# EAGLE library part RS232C (library FaBo-PIN)
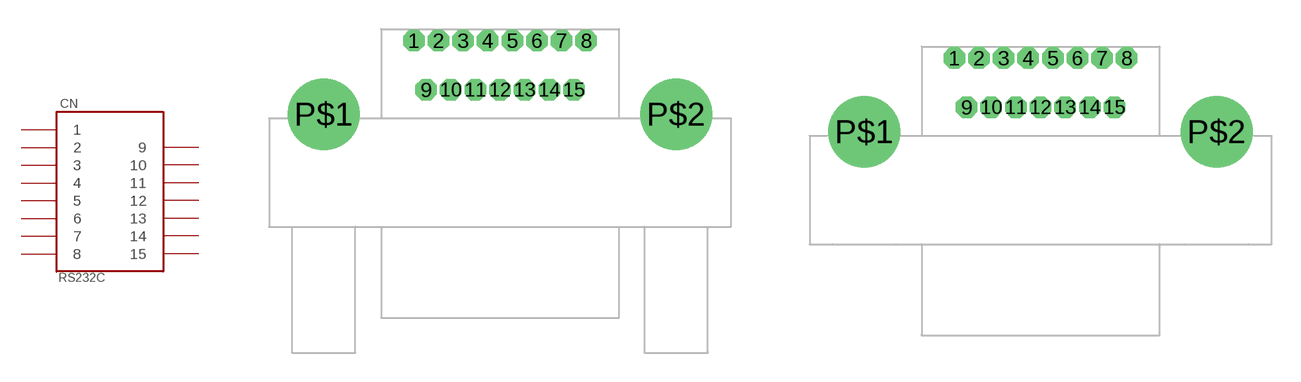
[diagram p10: symbol with the pads of 381-015-112L565; footprints 381-015-112L565, 381-015-112L565_NS]

Designator prefix CN

## RS232C-15P  [381-015-112L565]
1  1
2  2
3  3
4  4
5  5
6  6
7  7
8  8
9  9
10  10
11  11
12  12
13  13
14  14
15  15

## RS232C-NS  [381-015-112L565_NS]
Pads as for 381-015-112L565

## Footprint 381-015-112L565 (pad centres in mm)
drill 0.6 pad 0.95 octagon: 1 -4.445,9.51; 2 -3.175,9.51; 3 -1.905,9.51; 4 -0.635,9.51; 5 0.635,9.51; 6 1.905,9.51; 7 3.175,9.51; 8 4.445,9.51; 9 -3.81,6.97; 10 -2.54,6.97; 11 -1.27,6.97; 12 0,6.97; 13 1.27,6.97; 14 2.54,6.97; 15 3.81,6.97
drill 2.69: P$1 -9.08,5.7; P$2 9.08,5.7

## Footprint 381-015-112L565_NS (pad centres in mm)
drill 0.6 pad 0.95 octagon: 1 -4.445,9.51; 2 -3.175,9.51; 3 -1.905,9.51; 4 -0.635,9.51; 5 0.635,9.51; 6 1.905,9.51; 7 3.175,9.51; 8 4.445,9.51; 9 -3.81,6.97; 10 -2.54,6.97; 11 -1.27,6.97; 12 0,6.97; 13 1.27,6.97; 14 2.54,6.97; 15 3.81,6.97
drill 2.69: P$1 -9.08,5.7; P$2 9.08,5.7